# Altium footprint library PCB - LEADLESS - PLD - NXP - PLD 1.5 CASE 466-03 D.PcbLib: 1 footprints
Each footprint in its own frame and in the unit in brackets; x right, y up, seen from the top. Pads: shape width x height; smd on the part's side, far side on the other; paste and mask are expansions set on the pad; w line width, h text height; cw(c..) or ccw(c..) is an arc to the next point about the centre after c.
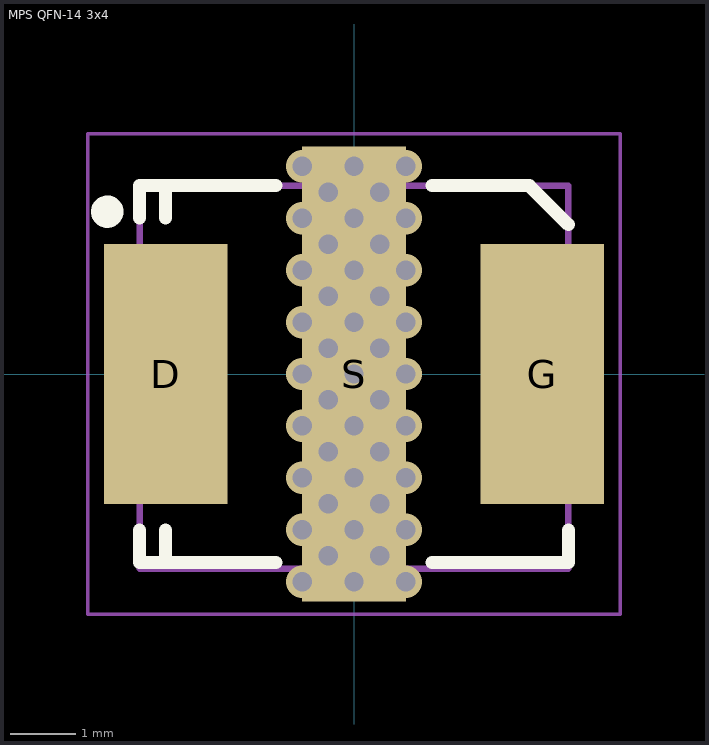
[diagram p0: the footprint, top view; thin cyan lines are the x and y axes]

## MPS QFN-14 3x4 [mm] "DFN, 14-Leads, Body 3.00x4.00mm, Pitch 0.50mm, Thermal Pad 1.70x3.30mm"
height 1
pads (3):
  rect 1.9x4 smd: D(-2.9,0) G(2.9,0)
  rect 1.6x7 smd: S(0,0)
via -0.8,-3.2 diameter 0.5 hole 0.3
via -0.8,-2.4 diameter 0.5 hole 0.3
via -0.8,-1.6 diameter 0.5 hole 0.3
via -0.8,-0.8 diameter 0.5 hole 0.3
via -0.8,3.2 diameter 0.5 hole 0.3
via -0.8,2.4 diameter 0.5 hole 0.3
via -0.8,1.6 diameter 0.5 hole 0.3
via -0.8,0.8 diameter 0.5 hole 0.3
via -0.8,0 diameter 0.5 hole 0.3
via 0.8,-3.2 diameter 0.5 hole 0.3
via 0.8,-2.4 diameter 0.5 hole 0.3
via 0.8,-1.6 diameter 0.5 hole 0.3
via 0.8,-0.8 diameter 0.5 hole 0.3
via 0.8,3.2 diameter 0.5 hole 0.3
via 0.8,2.4 diameter 0.5 hole 0.3
via 0.8,1.6 diameter 0.5 hole 0.3
via 0.8,0.8 diameter 0.5 hole 0.3
via 0.8,0 diameter 0.5 hole 0.3
via 0.4,-2.8 diameter 0.5 hole 0.3
via 0.4,-2 diameter 0.5 hole 0.3
via 0.4,-1.2 diameter 0.5 hole 0.3
via 0.4,-0.4 diameter 0.5 hole 0.3
via 0.4,2.8 diameter 0.5 hole 0.3
via 0.4,2 diameter 0.5 hole 0.3
via 0.4,1.2 diameter 0.5 hole 0.3
via 0.4,0.4 diameter 0.5 hole 0.3
via -0.4,-2.8 diameter 0.5 hole 0.3
via -0.4,-2 diameter 0.5 hole 0.3
via -0.4,-1.2 diameter 0.5 hole 0.3
via -0.4,-0.4 diameter 0.5 hole 0.3
via -0.4,2.8 diameter 0.5 hole 0.3
via -0.4,2 diameter 0.5 hole 0.3
via -0.4,1.2 diameter 0.5 hole 0.3
via -0.4,0.4 diameter 0.5 hole 0.3
via 0,-3.2 diameter 0.5 hole 0.3
via 0,-2.4 diameter 0.5 hole 0.3
via 0,-1.6 diameter 0.5 hole 0.3
via 0,-0.8 diameter 0.5 hole 0.3
via 0,3.2 diameter 0.5 hole 0.3
via 0,2.4 diameter 0.5 hole 0.3
via 0,1.6 diameter 0.5 hole 0.3
via 0,0.8 diameter 0.5 hole 0.3
via 0,0 diameter 0.5 hole 0.3
Top Overlay:
  circle w0.25: c-3.8,2.5 r0.125
  lines w0.2: -3.3,-2.4 -3.3,-2.9 -1.2,-2.9 ; -3.3,2.4 -3.3,2.9 -1.2,2.9 ; -2.9,-2.9 -2.9,-2.4 ; -2.9,2.4 -2.9,2.9 ; 1.2,-2.9 3.3,-2.9 3.3,-2.4 ; 1.2,2.9 2.7,2.9 3.3,2.3
Mechanical 13:
  lines w0.1: -3.3,-3 -3.3,2.9 3.3,2.9 3.3,-3 -3.3,-3
Mechanical 15:
  lines w0.05: -4.1,-3.7 -4.1,3.7 4.1,3.7 4.1,-3.7 -4.1,-3.7
  lines w0.1: -0.5,0 0.5,0 ; 0,-0.5 0,0.5
3D body "NXP - PLD 1.5 CASE 466-03 D.step": height 1.83, standoff 0, extent -3.542,-3.175 3.542,3.175